# EAGLE library part DMG6968UDM-7 (library DMG6968UDM-7)
Diodes Inc DMG6968UDM-7 Dual N-channel MOSFET Transistor, 6.5 A, 20 V, 6-Pin SOT-26 Source: Datasheet <https://www.diodes.com/assets/Datasheets/ds31758.pdf>
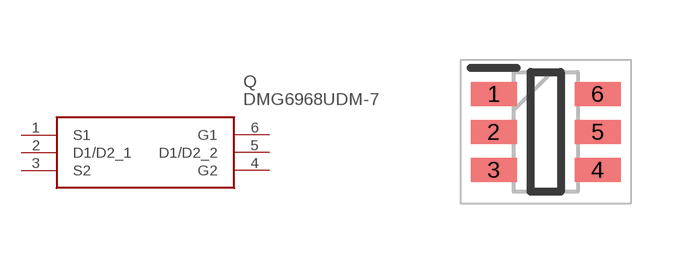
[diagram p0: symbol with the pads of SOT95P285X140-6N; footprint SOT95P285X140-6N]

Designator prefix Q

## DMG6968UDM-7 (Allied_Number: 70438046; Allied_Price-Stock: https://www.alliedelec.com/diodesinc-dmg6968udm-7/70438046/; Description: Diodes Inc DMG6968UDM-7 Dual N-channel MOSFET Transistor, 6.5 A, 20 V, 6-Pin SOT-26; Height: 1.4mm; Manufacturer_Name: Diodes Inc.; Manufacturer_Part_Number: DMG6968UDM-7; Mouser_Part_Number: 621-DMG6968UDM-7; Mouser_Price-Stock: https://www.mouser.com/Search/Refine.aspx?Keyword=621-DMG6968UDM-7; RS_Part_Number: 7514115P; RS_Price-Stock: http://uk.rs-online.com/web/p/products/7514115P)  [SOT95P285X140-6N]
1  S1
2  D1/D2_1
3  S2
4  G2
5  D1/D2_2
6  G1

## Footprint SOT95P285X140-6N (pad centres in mm)
SOT26-
smd 1.15 x 0.6: 1 -1.3,0.95; 2 -1.3,0; 3 -1.3,-0.95; 4 1.3,-0.95; 5 1.3,0; 6 1.3,0.95